# Altium footprint library SSW-116-01-L-S.PcbLib: 1 footprints
Each footprint in its own frame and in the unit in brackets; x right, y up, seen from the top. Pads: shape width x height; smd on the part's side, far side on the other; paste and mask are expansions set on the pad; w line width, h text height; cw(c..) or ccw(c..) is an arc to the next point about the centre after c.
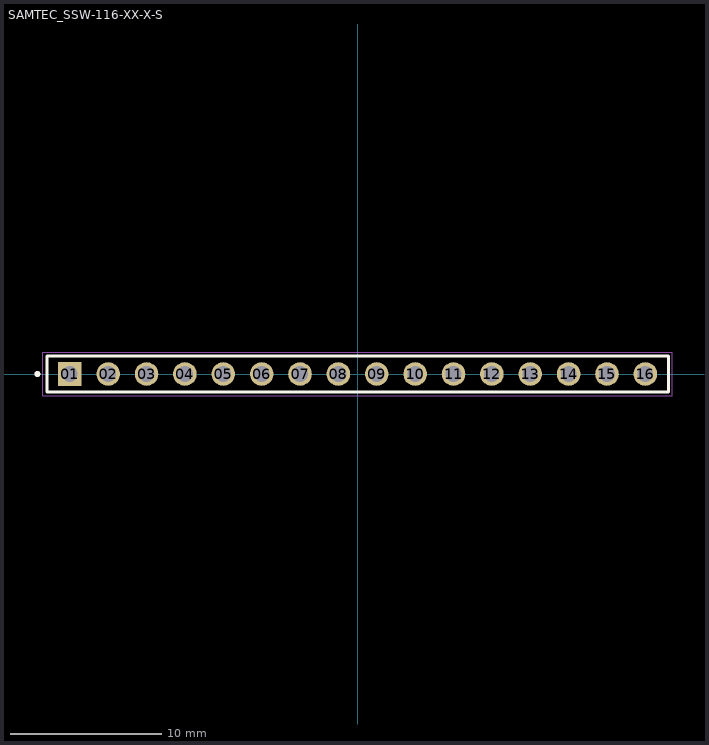
[diagram p0: the footprint, top view; thin cyan lines are the x and y axes]

## SAMTEC_SSW-116-XX-X-S [mm]
pads (16):
  rect 1.56x1.56 hole 1.04: 01(-19.05,0)
  round 1.56 hole 1.04: 02(-16.51,0) 03(-13.97,0) 04(-11.43,0) 05(-8.89,0) 06(-6.35,0) 07(-3.81,0) 08(-1.27,0) 09(1.27,0) 10(3.81,0) 11(6.35,0) 12(8.89,0) 13(11.43,0) 14(13.97,0) 15(16.51,0) 16(19.05,0)
Top Overlay:
  circle w0.2: c-21.2,0 r0.1
  lines w0.2: -20.575,-1.205 -20.575,1.205 20.575,1.205 20.575,-1.205 -20.575,-1.205
Mechanical 13:
  circle w0.2: c-21.2,0 r0.1
  lines w0.1: -20.575,-1.205 -20.575,1.205 20.575,1.205 20.575,-1.205 -20.575,-1.205
  text "'.Designator'" at 16.737,1.73 h0.7
Mechanical 15:
  lines w0.05: -20.825,-1.455 -20.825,1.455 20.825,1.455 20.825,-1.455 -20.825,-1.455